# Altium schematic symbol library SnapEDAsch.SchLib: 1 symbol
Pins are listed as number, name and electrical type; pins without a type are passive.

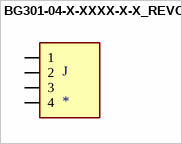
[diagram p0: symbol BG301-04-X-XXXX-X-X_REVC]

## BG301-04-X-XXXX-X-X_REVC
designator J
Connector Header Surface Mount, Right Angle 4 position 0.100 _2.54mm_; MP: BG301-04-A-0540-L-B; MF: Global Connector Technology; Digi-Key_Part_Number: 2073-BG301-04-A-0540-L-BCT-ND; Package: None; SnapEDA_Link: https://www.snapeda.com/parts/BG301-04-A-0540-L-B/Global%20Connector%20Technology/view-part/813020/?ref=snap; Digi-Key_Purchase_URL: https://www.digikey.by/product-detail/en/gct/BG301-04-A-0540-L-B/2073-BG301-04-A-0540-L-BCT-ND/9859670?utm_source=snapeda&utm_medium=aggregator&utm_campaign=symbol; Value: *
footprint GCT_BG301-04-X-XXXX-X-X_REVC
pins: 1, 2, 3, 4